# EAGLE library part CON-MOLEX_52745-3090 (library DASHBOARD_PARTS_LIB)
FFC/FPC-to-Board 0.50mm (.020") SMT Top Contact Right Angle, ZIF, Style Receptacle 52745 / 52435 Source: http://www.molex.com/product/ffc/52745.html
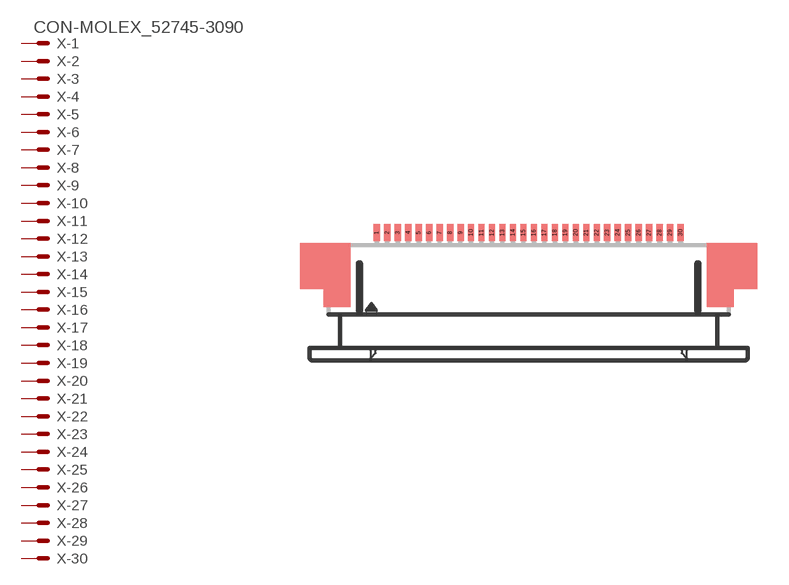
[diagram p6: symbol with the pads of CON-MOLEX_52745-3090; footprint CON-MOLEX_52745-3090]

Designator prefix X; gates -1=CON-MOLEX_MV -2=CON-MOLEX_M -3=CON-MOLEX_M -4=CON-MOLEX_M -5=CON-MOLEX_M -6=CON-MOLEX_M -7=CON-MOLEX_M -8=CON-MOLEX_M -9=CON-MOLEX_M -10=CON-MOLEX_M -11=CON-MOLEX_M -12=CON-MOLEX_M -13=CON-MOLEX_M -14=CON-MOLEX_M -15=CON-MOLEX_M -16=CON-MOLEX_M -17=CON-MOLEX_M -18=CON-MOLEX_M -19=CON-MOLEX_M -20=CON-MOLEX_M -21=CON-MOLEX_M -22=CON-MOLEX_M -23=CON-MOLEX_M -24=CON-MOLEX_M -25=CON-MOLEX_M -26=CON-MOLEX_M -27=CON-MOLEX_M -28=CON-MOLEX_M -29=CON-MOLEX_M -30=CON-MOLEX_M

## CON-MOLEX_52745-3090 (MF: MOLEX; OC_FARNELL: unknown; OC_NEWARK: unknown)  [CON-MOLEX_52745-3090]
1  -1:S  pas
2  -2:S  pas
3  -3:S  pas
4  -4:S  pas
5  -5:S  pas
6  -6:S  pas
7  -7:S  pas
8  -8:S  pas
9  -9:S  pas
10  -10:S  pas
11  -11:S  pas
12  -12:S  pas
13  -13:S  pas
14  -14:S  pas
15  -15:S  pas
16  -16:S  pas
17  -17:S  pas
18  -18:S  pas
19  -19:S  pas
20  -20:S  pas
21  -21:S  pas
22  -22:S  pas
23  -23:S  pas
24  -24:S  pas
25  -25:S  pas
26  -26:S  pas
27  -27:S  pas
28  -28:S  pas
29  -29:S  pas
30  -30:S  pas

## Footprint CON-MOLEX_52745-3090 (pad centres in mm)
FFC/FPC-to-Board 0.50mm (.020") SMT Top Contact Right Angle, ZIF, Style Receptacle 52745 / 52435 Source: http://www.molex.com/product/ffc/52745.html
smd 0.3 x 0.8: 1 -7.25,2.5; 2 -6.75,2.5; 3 -6.25,2.5; 4 -5.75,2.5; 5 -5.25,2.5; 6 -4.75,2.5; 7 -4.25,2.5; 8 -3.75,2.5; 9 -3.25,2.5; 10 -2.75,2.5; 11 -2.25,2.5; 12 -1.75,2.5; 13 -1.25,2.5; 14 -0.75,2.5; 15 -0.25,2.5; 16 0.25,2.5; 17 0.75,2.5; 18 1.25,2.5; 19 1.75,2.5; 20 2.25,2.5; 21 2.75,2.5; 22 3.25,2.5; 23 3.75,2.5; 24 4.25,2.5; 25 4.75,2.5; 26 5.25,2.5; 27 5.75,2.5; 28 6.25,2.5; 29 6.75,2.5; 30 7.25,2.5